# Altium footprint library SWRH1004C-470MT.PcbLib: 1 footprints
Each footprint in its own frame and in the unit in brackets; x right, y up, seen from the top. Pads: shape width x height; smd on the part's side, far side on the other; paste and mask are expansions set on the pad; w line width, h text height; cw(c..) or ccw(c..) is an arc to the next point about the centre after c.
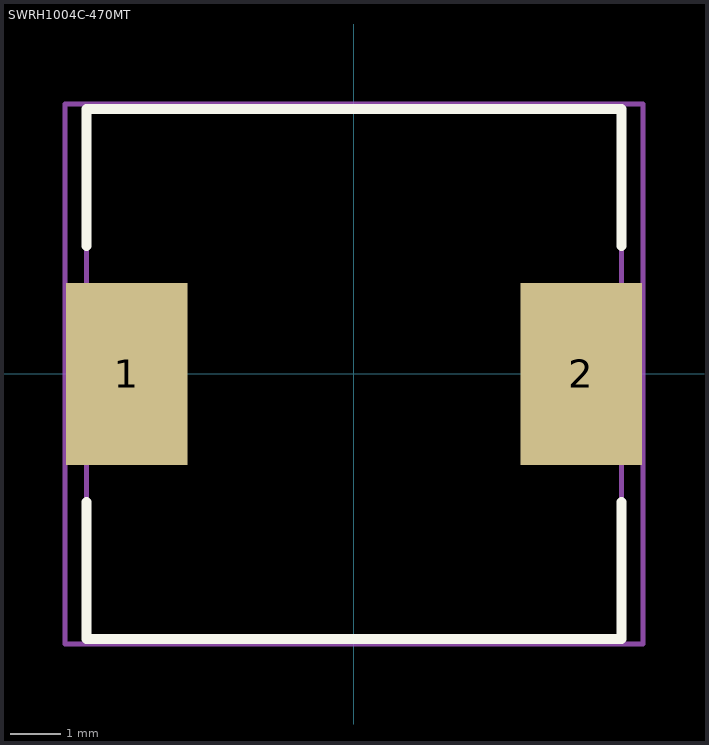
[diagram p0: the footprint, top view; thin cyan lines are the x and y axes]

## SWRH1004C-470MT [mm] "Precision Wire Wound Inductor, 2-Leads, Body 10.60x10.50mm, IPC High Density"
height 4
pads (2):
  rect 2.4x3.6 smd: 1(-4.5,0) 2(4.5,0)
Top Overlay:
  lines w0.2: -5.3,-2.54 -5.3,-5.25 5.3,-5.25 5.3,-2.54 ; -5.3,2.54 -5.3,5.25 5.3,5.25 5.3,2.54
Mechanical 13:
  lines w0.1: -5.3,-5.25 -5.3,5.25 5.3,5.25 5.3,-5.25 -5.3,-5.25
Mechanical 15:
  lines w0.1: -5.725,-5.35 -5.725,5.35 5.725,5.35 5.725,-5.35 -5.725,-5.35
3D body: height 4.2, standoff 0.08, extent -5.4,-5.292 5.4,5.256